# Altium integrated library Analog Devices Operational Amplifiers.IntLib: 2102 symbols (part 3 of 70)
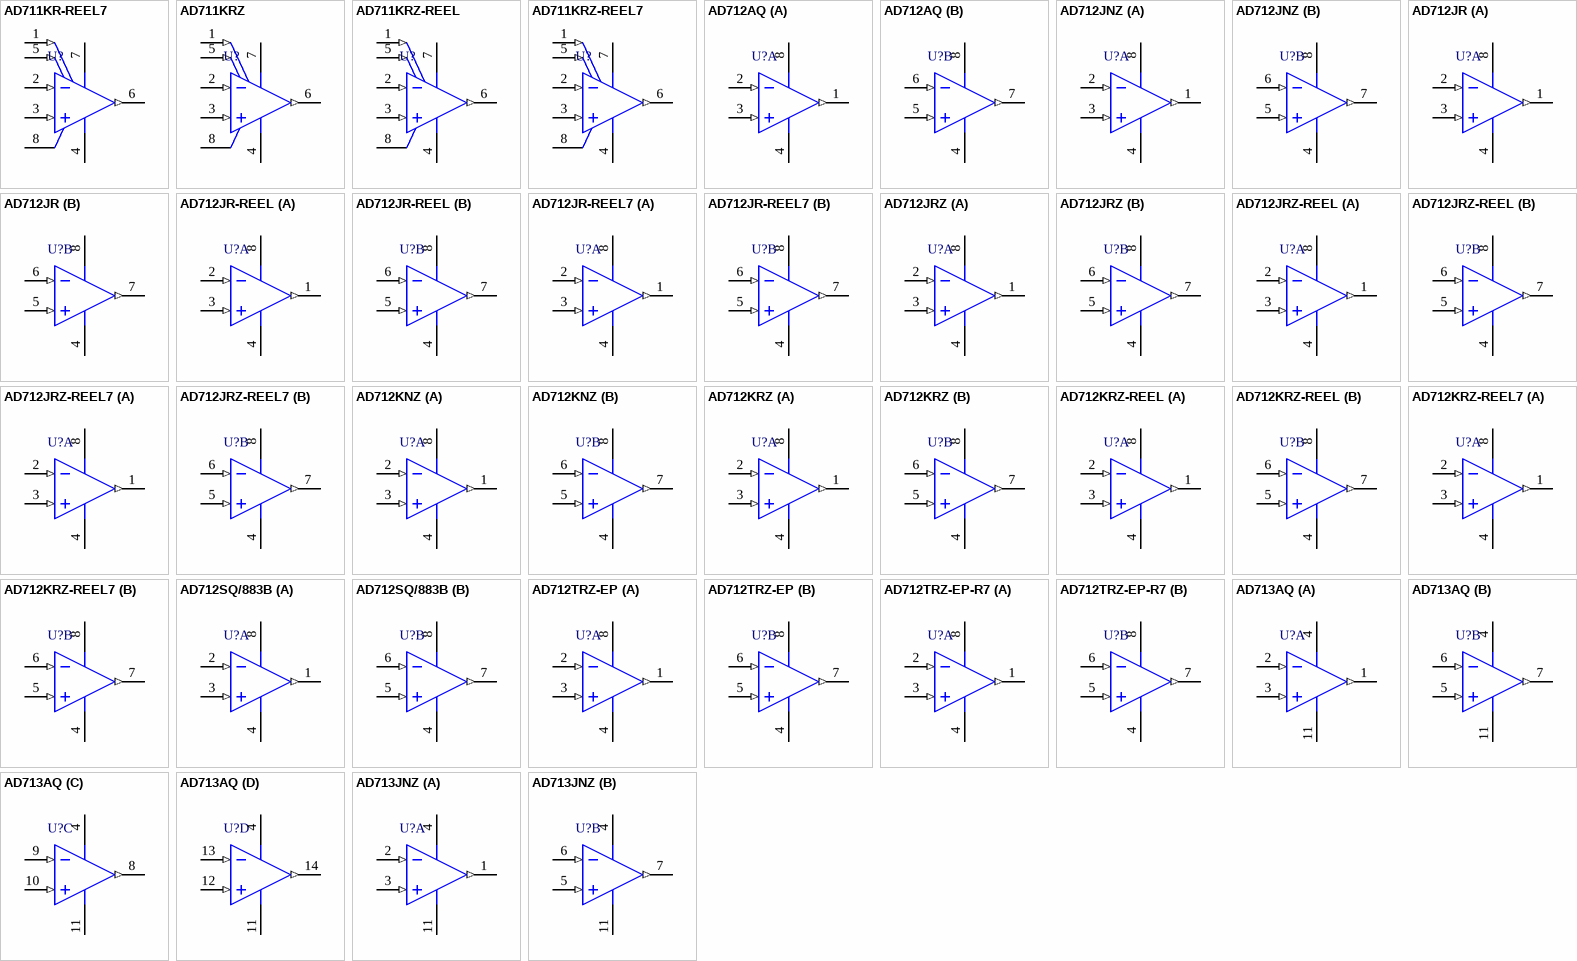
[diagram p116: symbols AD711KR-REEL7 to AD713JNZ]

## AD712JRZ-REEL7
designator U?
Double Channel Operational Amplifier, 4 MHz BW, 20 V/us SR, Commercial, 8-pin SOIC (R-8), Reel; Generic Part Number: AD712; Manufacturer: Analog Devices; PartNumber: AD712JRZ-REEL7; Amplifiers Per Package: 2; Input Bias Current: 25pA; Input Offset Voltage: 300uV; Iq/Amp: 2.8mA; Slew Rate: 20V/us; Small Signal Bandwidth: 4MHz; V Span Max: 36V; V Span Min: 9V; DatasheetVersion: Rev. H; PackageVersion: 060506-A; PackageReference: R-8; PackageDescription: 8-Pin Standard Small Outline Package, Body 3.9 x 4.9 mm, Pitch 1.27 mm; Supplier 1: Digi-Key; Supplier Part Number 1: AD712JRZ-REEL7TR-ND; Supplier 2: Digi-Key; Supplier Part Number 2: AD712JRZ-REEL7CT-ND; Supplier 3: Digi-Key; Supplier Part Number 3: AD712JRZ-REEL7DKR-ND; Supplier 4: Newark; Supplier Part Number 4: 87H9973; Packing: Reel; Mounting Technology: Surface Mount; Code_JEDEC: MS-012-AA; ComponentLink1Description: Manufacturer URL; ComponentLink1URL: http://www.analog.com/en/index.html; ComponentLink2Description: Datasheet; ComponentLink2URL: http://www.analog.com/static/imported-files/data_sheets/AD712.pdf; ComponentLink3Description: Package Specification; ComponentLink3URL: http://www.analog.com/static/imported-files/packages/PKG_PDF/SOIC_Narrow%20(R)/R_8.pdf
footprint ADI-R-8_N (SOIC, 8-Leads, Body 4.9x3.9mm, Pitch 1.27mm, IPC Medium Density)
footprint ADI-R-8_L (SOIC, 8-Leads, Body 4.9x3.9mm, Pitch 1.27mm, IPC High Density)
footprint ADI-R-8_M (SOIC, 8-Leads, Body 4.9x3.9mm, Pitch 1.27mm, IPC Low Density)
pins on every part: 4 -V (power), 8 +V (power)
part A pins: 1 OUT (out), 2 INVERTING INPUT (in), 3 NONINVERTING INPUT (in)
part B pins: 5 NONINVERTING INPUT (in), 6 INVERTING INPUT (in), 7 OUT (out)

## AD712KNZ
designator U?
Double Channel Operational Amplifier, 4 MHz BW, 20 V/us SR, Commercial, 8-pin DIP (N-8), Tube; Generic Part Number: AD712; Manufacturer: Analog Devices; PartNumber: AD712KNZ; Amplifiers Per Package: 2; Input Bias Current: 20pA; Input Offset Voltage: 200uV; Iq/Amp: 2.8mA; Slew Rate: 20V/us; Small Signal Bandwidth: 4MHz; V Span Max: 36V; V Span Min: 9V; DatasheetVersion: Rev. H; PackageVersion: 070606-A; PackageReference: N-8; PackageDescription: 8-Pin Plastic Dual In-Line Package, Row spacing 7.62 mm, Pitch 2.54 mm; Supplier 1: Digi-Key; Supplier Part Number 1: AD712KNZ-ND; Supplier 2: Farnell; Supplier Part Number 2: 1438361; Supplier 3: Newark; Supplier Part Number 3: 59K4555; Packing: Tube; Mounting Technology: Through Hole; Code_JEDEC: MS-001; ComponentLink1Description: Manufacturer URL; ComponentLink1URL: http://www.analog.com/en/index.html; ComponentLink2Description: Datasheet; ComponentLink2URL: http://www.analog.com/static/imported-files/data_sheets/AD712.pdf; ComponentLink3Description: Package Specification; ComponentLink3URL: http:/www.analog.com/static/imported-files/packages/PKG_PDF/PDIP(N)/N_8.pdf
footprint ADI-N-8 (DIP, 8-Leads, Body 9.59x6.6mm, Pitch 2.54mm)
pins on every part: 4 -V (power), 8 +V (power)
part A pins: 1 OUT (out), 2 INVERTING INPUT (in), 3 NONINVERTING INPUT (in)
part B pins: 5 NONINVERTING INPUT (in), 6 INVERTING INPUT (in), 7 OUT (out)

## AD712KRZ
designator U?
Double Channel Operational Amplifier, 4 MHz BW, 20 V/us SR, Commercial, 8-pin SOIC (R-8), Tube; Generic Part Number: AD712; Manufacturer: Analog Devices; PartNumber: AD712KRZ; Amplifiers Per Package: 2; Input Bias Current: 20pA; Input Offset Voltage: 200uV; Iq/Amp: 2.8mA; Slew Rate: 20V/us; Small Signal Bandwidth: 4MHz; V Span Max: 36V; V Span Min: 9V; DatasheetVersion: Rev. H; PackageVersion: 060506-A; PackageReference: R-8; PackageDescription: 8-Pin Standard Small Outline Package, Body 3.9 x 4.9 mm, Pitch 1.27 mm; Supplier 1: Digi-Key; Supplier Part Number 1: AD712KRZ-ND; Supplier 2: Farnell; Supplier Part Number 2: 1660966; Supplier 3: Newark; Supplier Part Number 3: 59K4556; Packing: Tube; Mounting Technology: Surface Mount; Code_JEDEC: MS-012-AA; ComponentLink1Description: Manufacturer URL; ComponentLink1URL: http://www.analog.com/en/index.html; ComponentLink2Description: Datasheet; ComponentLink2URL: http://www.analog.com/static/imported-files/data_sheets/AD712.pdf; ComponentLink3Description: Package Specification; ComponentLink3URL: http://www.analog.com/static/imported-files/packages/PKG_PDF/SOIC_Narrow%20(R)/R_8.pdf
footprint ADI-R-8_N (SOIC, 8-Leads, Body 4.9x3.9mm, Pitch 1.27mm, IPC Medium Density)
footprint ADI-R-8_L (SOIC, 8-Leads, Body 4.9x3.9mm, Pitch 1.27mm, IPC High Density)
footprint ADI-R-8_M (SOIC, 8-Leads, Body 4.9x3.9mm, Pitch 1.27mm, IPC Low Density)
pins on every part: 4 -V (power), 8 +V (power)
part A pins: 1 OUT (out), 2 INVERTING INPUT (in), 3 NONINVERTING INPUT (in)
part B pins: 5 NONINVERTING INPUT (in), 6 INVERTING INPUT (in), 7 OUT (out)

## AD712KRZ-REEL
designator U?
Double Channel Operational Amplifier, 4 MHz BW, 20 V/us SR, Commercial, 8-pin SOIC (R-8), Reel; Generic Part Number: AD712; Manufacturer: Analog Devices; PartNumber: AD712KRZ-REEL; Amplifiers Per Package: 2; Input Bias Current: 20pA; Input Offset Voltage: 200uV; Iq/Amp: 2.8mA; Slew Rate: 20V/us; Small Signal Bandwidth: 4MHz; V Span Max: 36V; V Span Min: 9V; DatasheetVersion: Rev. H; PackageVersion: 060506-A; PackageReference: R-8; PackageDescription: 8-Pin Standard Small Outline Package, Body 3.9 x 4.9 mm, Pitch 1.27 mm; Supplier 1: Digi-Key; Supplier Part Number 1: AD712KRZ-REEL-ND; Packing: Reel; Mounting Technology: Surface Mount; Code_JEDEC: MS-012-AA; ComponentLink1Description: Manufacturer URL; ComponentLink1URL: http://www.analog.com/en/index.html; ComponentLink2Description: Datasheet; ComponentLink2URL: http://www.analog.com/static/imported-files/data_sheets/AD712.pdf; ComponentLink3Description: Package Specification; ComponentLink3URL: http://www.analog.com/static/imported-files/packages/PKG_PDF/SOIC_Narrow%20(R)/R_8.pdf
footprint ADI-R-8_N (SOIC, 8-Leads, Body 4.9x3.9mm, Pitch 1.27mm, IPC Medium Density)
footprint ADI-R-8_L (SOIC, 8-Leads, Body 4.9x3.9mm, Pitch 1.27mm, IPC High Density)
footprint ADI-R-8_M (SOIC, 8-Leads, Body 4.9x3.9mm, Pitch 1.27mm, IPC Low Density)
pins on every part: 4 -V (power), 8 +V (power)
part A pins: 1 OUT (out), 2 INVERTING INPUT (in), 3 NONINVERTING INPUT (in)
part B pins: 5 NONINVERTING INPUT (in), 6 INVERTING INPUT (in), 7 OUT (out)

## AD712KRZ-REEL7
designator U?
Double Channel Operational Amplifier, 4 MHz BW, 20 V/us SR, Commercial, 8-pin SOIC (R-8), Reel; Generic Part Number: AD712; Manufacturer: Analog Devices; PartNumber: AD712KRZ-REEL7; Amplifiers Per Package: 2; Input Bias Current: 20pA; Input Offset Voltage: 200uV; Iq/Amp: 2.8mA; Slew Rate: 20V/us; Small Signal Bandwidth: 4MHz; V Span Max: 36V; V Span Min: 9V; DatasheetVersion: Rev. H; PackageVersion: 060506-A; PackageReference: R-8; PackageDescription: 8-Pin Standard Small Outline Package, Body 3.9 x 4.9 mm, Pitch 1.27 mm; Supplier 1: Digi-Key; Supplier Part Number 1: AD712KRZ-REEL7TR-ND; Supplier 2: Digi-Key; Supplier Part Number 2: AD712KRZ-REEL7CT-ND; Supplier 3: Digi-Key; Supplier Part Number 3: AD712KRZ-REEL7DKR-ND; Packing: Reel; Mounting Technology: Surface Mount; Code_JEDEC: MS-012-AA; ComponentLink1Description: Manufacturer URL; ComponentLink1URL: http://www.analog.com/en/index.html; ComponentLink2Description: Datasheet; ComponentLink2URL: http://www.analog.com/static/imported-files/data_sheets/AD712.pdf; ComponentLink3Description: Package Specification; ComponentLink3URL: http://www.analog.com/static/imported-files/packages/PKG_PDF/SOIC_Narrow%20(R)/R_8.pdf
footprint ADI-R-8_N (SOIC, 8-Leads, Body 4.9x3.9mm, Pitch 1.27mm, IPC Medium Density)
footprint ADI-R-8_L (SOIC, 8-Leads, Body 4.9x3.9mm, Pitch 1.27mm, IPC High Density)
footprint ADI-R-8_M (SOIC, 8-Leads, Body 4.9x3.9mm, Pitch 1.27mm, IPC Low Density)
pins on every part: 4 -V (power), 8 +V (power)
part A pins: 1 OUT (out), 2 INVERTING INPUT (in), 3 NONINVERTING INPUT (in)
part B pins: 5 NONINVERTING INPUT (in), 6 INVERTING INPUT (in), 7 OUT (out)

## AD712SQ/883B
designator U?
Double Channel Operational Amplifier, 4 MHz BW, 20 V/us SR, Military, 8-pin DIP (Q-8), Tube; Generic Part Number: AD712; Manufacturer: Analog Devices; PartNumber: AD712SQ/883B; Amplifiers Per Package: 2; Input Bias Current: 25pA; Input Offset Voltage: 300uV; Iq/Amp: 2.8mA; Slew Rate: 20V/us; Small Signal Bandwidth: 4MHz; V Span Max: 36V; V Span Min: 9V; DatasheetVersion: Rev. H; PackageReference: Q-8; PackageDescription: 8-Pin Ceramic Dual In-Line Package, Row spacing 7.62 mm, Pitch 2.54 mm; Supplier 1: Digi-Key; Supplier Part Number 1: AD712SQ/883B-ND; Supplier 2: Newark; Supplier Part Number 2: 28M3230; Packing: Tube; Mounting Technology: Through Hole; ComponentLink1Description: Manufacturer URL; ComponentLink1URL: http://www.analog.com/en/index.html; ComponentLink2Description: Datasheet; ComponentLink2URL: http://www.analog.com/static/imported-files/data_sheets/AD712.pdf; ComponentLink3Description: Package Specification; ComponentLink3URL: http://www.analog.com/static/imported-files/packages/3925655241313314758Q_8.pdf
footprint ADI-Q-8 (DIP, 8-Leads, Body 10.29x6.73mm, Pitch 2.54mm)
pins on every part: 4 -V (power), 8 +V (power)
part A pins: 1 OUT (out), 2 INVERTING INPUT (in), 3 NONINVERTING INPUT (in)
part B pins: 5 NONINVERTING INPUT (in), 6 INVERTING INPUT (in), 7 OUT (out)

## AD712TRZ-EP
designator U?
Double Channel Operational Amplifier, 4 MHz BW, 20 V/us SR, Military, 8-pin SOIC (R-8), Tube; Generic Part Number: AD712; Manufacturer: Analog Devices; PartNumber: AD712TRZ-EP; Amplifiers Per Package: 2; Input Bias Current: 25pA; Input Offset Voltage: 300uV; Iq/Amp: 2.8mA; Slew Rate: 20V/us; Small Signal Bandwidth: 4MHz; V Span Max: 36V; V Span Min: 9V; DatasheetVersion: Rev. H; PackageVersion: 060506-A; PackageReference: R-8; PackageDescription: 8-Pin Standard Small Outline Package, Body 3.9 x 4.9 mm, Pitch 1.27 mm; Supplier 1: Digi-Key; Supplier Part Number 1: AD712TRZ-EP-ND; Supplier 2: Newark; Supplier Part Number 2: 85R6433; Packing: Tube; Mounting Technology: Surface Mount; Code_JEDEC: MS-012-AA; ComponentLink1Description: Manufacturer URL; ComponentLink1URL: http://www.analog.com/en/index.html; ComponentLink2Description: Datasheet; ComponentLink2URL: http://www.analog.com/static/imported-files/data_sheets/AD712.pdf; ComponentLink3Description: Package Specification; ComponentLink3URL: http://www.analog.com/static/imported-files/packages/PKG_PDF/SOIC_Narrow%20(R)/R_8.pdf
footprint ADI-R-8_N (SOIC, 8-Leads, Body 4.9x3.9mm, Pitch 1.27mm, IPC Medium Density)
footprint ADI-R-8_L (SOIC, 8-Leads, Body 4.9x3.9mm, Pitch 1.27mm, IPC High Density)
footprint ADI-R-8_M (SOIC, 8-Leads, Body 4.9x3.9mm, Pitch 1.27mm, IPC Low Density)
pins on every part: 4 -V (power), 8 +V (power)
part A pins: 1 OUT (out), 2 INVERTING INPUT (in), 3 NONINVERTING INPUT (in)
part B pins: 5 NONINVERTING INPUT (in), 6 INVERTING INPUT (in), 7 OUT (out)

## AD712TRZ-EP-R7
designator U?
Double Channel Operational Amplifier, 4 MHz BW, 20 V/us SR, Military, 8-pin SOIC (R-8), Reel; Generic Part Number: AD712; Manufacturer: Analog Devices; PartNumber: AD712TRZ-EP-R7; Amplifiers Per Package: 2; Input Bias Current: 25pA; Input Offset Voltage: 300uV; Iq/Amp: 2.8mA; Slew Rate: 20V/us; Small Signal Bandwidth: 4MHz; V Span Max: 36V; V Span Min: 9V; DatasheetVersion: Rev. H; PackageVersion: 060506-A; PackageReference: R-8; PackageDescription: 8-Pin Standard Small Outline Package, Body 3.9 x 4.9 mm, Pitch 1.27 mm; Supplier 1: Digi-Key; Supplier Part Number 1: AD712TRZ-EP-R7TR-ND; Supplier 2: Digi-Key; Supplier Part Number 2: AD712TRZ-EP-R7CT-ND; Supplier 3: Digi-Key; Supplier Part Number 3: AD712TRZ-EP-R7DKR-ND; Supplier 4: Newark; Supplier Part Number 4: 85R6434; Packing: Reel; Mounting Technology: Surface Mount; Code_JEDEC: MS-012-AA; ComponentLink1Description: Manufacturer URL; ComponentLink1URL: http://www.analog.com/en/index.html; ComponentLink2Description: Datasheet; ComponentLink2URL: http://www.analog.com/static/imported-files/data_sheets/AD712.pdf; ComponentLink3Description: Package Specification; ComponentLink3URL: http://www.analog.com/static/imported-files/packages/PKG_PDF/SOIC_Narrow%20(R)/R_8.pdf
footprint ADI-R-8_N (SOIC, 8-Leads, Body 4.9x3.9mm, Pitch 1.27mm, IPC Medium Density)
footprint ADI-R-8_L (SOIC, 8-Leads, Body 4.9x3.9mm, Pitch 1.27mm, IPC High Density)
footprint ADI-R-8_M (SOIC, 8-Leads, Body 4.9x3.9mm, Pitch 1.27mm, IPC Low Density)
pins on every part: 4 -V (power), 8 +V (power)
part A pins: 1 OUT (out), 2 INVERTING INPUT (in), 3 NONINVERTING INPUT (in)
part B pins: 5 NONINVERTING INPUT (in), 6 INVERTING INPUT (in), 7 OUT (out)

## AD713AQ
designator U?
Quad Channel Operational Amplifier, 4 MHz BW, 20 V/us SR, Industrial, 14-pin DIP (Q-14), Tube; Generic Part Number: AD713; Manufacturer: Analog Devices; PartNumber: AD713AQ; Amplifiers Per Package: 4; Input Bias Current: 40pA; Input Offset Voltage: 300uV; Iq/Amp: 3mA; Slew Rate: 20V/us; Small Signal Bandwidth: 4MHz; V Span Max: 36V; V Span Min: 9V; DatasheetVersion: Rev. F; PackageReference: Q-14; PackageDescription: 14-Pin Ceramic Dual In-Line Package, Row spacing 7.62 mm, Pitch 2.54 mm; Supplier 1: Digi-Key; Supplier Part Number 1: AD713AQ-ND; Supplier 2: Farnell; Supplier Part Number 2: 1646254; Supplier 3: Newark; Supplier Part Number 3: 66F5831; Packing: Tube; Mounting Technology: Through Hole; ComponentLink1Description: Manufacturer URL; ComponentLink1URL: http://www.analog.com/en/index.html; ComponentLink2Description: Datasheet; ComponentLink2URL: http://www.analog.com/static/imported-files/data_sheets/AD713.pdf; ComponentLink3Description: Package Specification; ComponentLink3URL: http://www.analog.com/static/imported-files/packages/393665681442905251546090Q_14.pdf
footprint ADI-Q-14 (DIP, 14-Leads, Body 19.94x6.73mm, Pitch 2.54mm)
pins on every part: 4 +VS (power), 11 -VS (power)
part A pins: 1 OUT 1 (out), 2 -IN 1 (in), 3 +IN 1 (in)
part B pins: 5 +IN 2 (in), 6 -IN 2 (in), 7 OUT 2 (out)
part C pins: 8 OUT 3 (out), 9 -IN 3 (in), 10 +IN 3 (in)
part D pins: 12 +IN 4 (in), 13 -IN 4 (in), 14 OUT 4 (out)

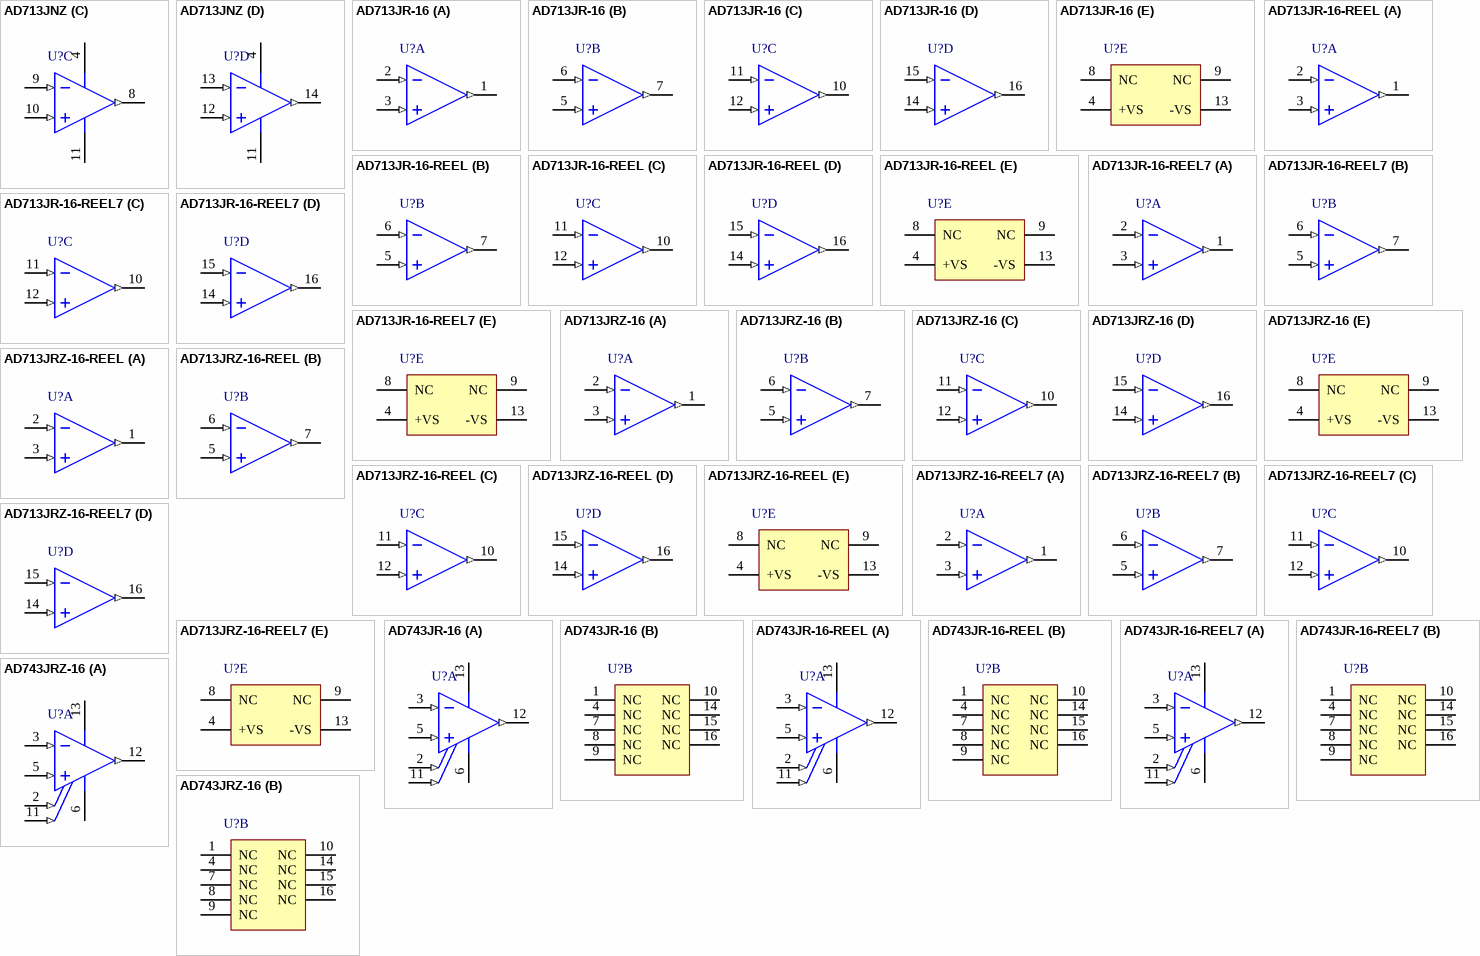
[diagram p4: symbols AD713JNZ to AD743JRZ-16]

## AD713JNZ
designator U?
Quad Channel Operational Amplifier, 4 MHz BW, 20 V/us SR, Commercial, 14-pin DIP (N-14), Tube; Generic Part Number: AD713; Manufacturer: Analog Devices; PartNumber: AD713JNZ; Amplifiers Per Package: 4; Input Bias Current: 40pA; Input Offset Voltage: 300uV; Iq/Amp: 3mA; Slew Rate: 20V/us; Small Signal Bandwidth: 4MHz; V Span Max: 36V; V Span Min: 9V; DatasheetVersion: Rev. F; PackageVersion: 070606-A; PackageReference: N-14; PackageDescription: 14-Pin Plastic Dual In-Line Package, Row spacing 7.62 mm, Pitch 2.54 mm; Supplier 1: Digi-Key; Supplier Part Number 1: AD713JNZ-ND; Supplier 2: Farnell; Supplier Part Number 2: 9604910; Supplier 3: Newark; Supplier Part Number 3: 59K4559; Packing: Tube; Mounting Technology: Through Hole; Code_JEDEC: MS-001; ComponentLink1Description: Manufacturer URL; ComponentLink1URL: http://www.analog.com/en/index.html; ComponentLink2Description: Datasheet; ComponentLink2URL: http://www.analog.com/static/imported-files/data_sheets/AD713.pdf; ComponentLink3Description: Package Specification; ComponentLink3URL: http://www.analog.com/static/imported-files/packages/N_14.pdf
footprint ADI-N-14 (DIP, 14-Leads, Body 19.18x6.605mm, Pitch 2.54mm)
pins on every part: 4 +VS (power), 11 -VS (power)
part A pins: 1 OUT 1 (out), 2 -IN 1 (in), 3 +IN 1 (in)
part B pins: 5 +IN 2 (in), 6 -IN 2 (in), 7 OUT 2 (out)
part C pins: 8 OUT 3 (out), 9 -IN 3 (in), 10 +IN 3 (in)
part D pins: 12 +IN 4 (in), 13 -IN 4 (in), 14 OUT 4 (out)

## AD713JR-16
designator U?
Quad Channel Operational Amplifier, 4 MHz BW, 20 V/us SR, Commercial, 16-pin SOIC (RW-16), Tube; Generic Part Number: AD713; Manufacturer: Analog Devices; PartNumber: AD713JR-16; Amplifiers Per Package: 4; Input Bias Current: 40pA; Input Offset Voltage: 300uV; Iq/Amp: 3mA; Slew Rate: 20V/us; Small Signal Bandwidth: 4MHz; V Span Max: 36V; V Span Min: 9V; DatasheetVersion: Rev. F; PackageVersion: 032707-B; PackageReference: RW-16; PackageDescription: 16-Pin Standard Small Outline Package, Body 10.3 x 7.5 mm, Pitch 1.27 mm; Supplier 1: Digi-Key; Supplier Part Number 1: AD713JR-16-ND; Packing: Tube; Mounting Technology: Surface Mount; Code_JEDEC: MS-013-AA; ComponentLink1Description: Manufacturer URL; ComponentLink1URL: http://www.analog.com/en/index.html; ComponentLink2Description: Datasheet; ComponentLink2URL: http://www.analog.com/static/imported-files/data_sheets/AD713.pdf; ComponentLink3Description: Package Specification; ComponentLink3URL: http://www.analog.com/static/imported-files/packages/PKG_PDF/SOIC_WIDE%20%28RW%29/RW_16.pdf
footprint ADI-RW-16_N (SOIC, 16-Leads, Body 10.3x7.5mm, Pitch 1.27mm,IPC Medium Density)
footprint ADI-RW-16_L (SOIC, 16-Leads, Body 10.3x7.5mm, Pitch 1.27mm, IPC High Density)
footprint ADI-RW-16_M (SOIC, 16-Leads, Body 10.3x7.5mm, Pitch 1.27mm, IPC Low Density)
part A pins: 1 OUT (out), 2 -IN (in), 3 +IN (in)
part B pins: 5 +IN (in), 6 -IN (in), 7 OUT (out)
part C pins: 10 OUT (out), 11 -IN (in), 12 +IN (in)
part D pins: 14 +IN (in), 15 -IN (in), 16 OUT (out)
part E pins: 4 +VS (power), 8 NC, 9 NC, 13 -VS (power)

## AD713JR-16-REEL
designator U?
Quad Channel Operational Amplifier, 4 MHz BW, 20 V/us SR, Commercial, 16-pin SOIC (RW-16), Reel; Generic Part Number: AD713; Manufacturer: Analog Devices; PartNumber: AD713JR-16-REEL; Amplifiers Per Package: 4; Input Bias Current: 40pA; Input Offset Voltage: 300uV; Iq/Amp: 3mA; Slew Rate: 20V/us; Small Signal Bandwidth: 4MHz; V Span Max: 36V; V Span Min: 9V; DatasheetVersion: Rev. F; PackageVersion: 032707-B; PackageReference: RW-16; PackageDescription: 16-Pin Standard Small Outline Package, Body 10.3 x 7.5 mm, Pitch 1.27 mm; Supplier 1: Digi-Key; Supplier Part Number 1: AD713JR-16-REEL-ND; Supplier 2: Newark; Supplier Part Number 2: 09B5558; Packing: Reel; Mounting Technology: Surface Mount; Code_JEDEC: MS-013-AA; ComponentLink1Description: Manufacturer URL; ComponentLink1URL: http://www.analog.com/en/index.html; ComponentLink2Description: Datasheet; ComponentLink2URL: http://www.analog.com/static/imported-files/data_sheets/AD713.pdf; ComponentLink3Description: Package Specification; ComponentLink3URL: http://www.analog.com/static/imported-files/packages/PKG_PDF/SOIC_WIDE%20%28RW%29/RW_16.pdf
footprint ADI-RW-16_N (SOIC, 16-Leads, Body 10.3x7.5mm, Pitch 1.27mm,IPC Medium Density)
footprint ADI-RW-16_L (SOIC, 16-Leads, Body 10.3x7.5mm, Pitch 1.27mm, IPC High Density)
footprint ADI-RW-16_M (SOIC, 16-Leads, Body 10.3x7.5mm, Pitch 1.27mm, IPC Low Density)
part A pins: 1 OUT (out), 2 -IN (in), 3 +IN (in)
part B pins: 5 +IN (in), 6 -IN (in), 7 OUT (out)
part C pins: 10 OUT (out), 11 -IN (in), 12 +IN (in)
part D pins: 14 +IN (in), 15 -IN (in), 16 OUT (out)
part E pins: 4 +VS (power), 8 NC, 9 NC, 13 -VS (power)

## AD713JR-16-REEL7
designator U?
Quad Channel Operational Amplifier, 4 MHz BW, 20 V/us SR, Commercial, 16-pin SOIC (RW-16), Reel; Generic Part Number: AD713; Manufacturer: Analog Devices; PartNumber: AD713JR-16-REEL7; Amplifiers Per Package: 4; Input Bias Current: 40pA; Input Offset Voltage: 300uV; Iq/Amp: 3mA; Slew Rate: 20V/us; Small Signal Bandwidth: 4MHz; V Span Max: 36V; V Span Min: 9V; DatasheetVersion: Rev. F; PackageVersion: 032707-B; PackageReference: RW-16; PackageDescription: 16-Pin Standard Small Outline Package, Body 10.3 x 7.5 mm, Pitch 1.27 mm; Supplier 1: Digi-Key; Supplier Part Number 1: AD713JR-16REEL7TR-ND; Supplier 2: Digi-Key; Supplier Part Number 2: AD713JR-16REEL7CT-ND; Supplier 3: Digi-Key; Supplier Part Number 3: AD713JR16REEL7DKR-ND; Supplier 4: Newark; Supplier Part Number 4: 09B5559; Packing: Reel; Mounting Technology: Surface Mount; Code_JEDEC: MS-013-AA; ComponentLink1Description: Manufacturer URL; ComponentLink1URL: http://www.analog.com/en/index.html; ComponentLink2Description: Datasheet; ComponentLink2URL: http://www.analog.com/static/imported-files/data_sheets/AD713.pdf; ComponentLink3Description: Package Specification; ComponentLink3URL: http://www.analog.com/static/imported-files/packages/PKG_PDF/SOIC_WIDE%20%28RW%29/RW_16.pdf
footprint ADI-RW-16_N (SOIC, 16-Leads, Body 10.3x7.5mm, Pitch 1.27mm,IPC Medium Density)
footprint ADI-RW-16_L (SOIC, 16-Leads, Body 10.3x7.5mm, Pitch 1.27mm, IPC High Density)
footprint ADI-RW-16_M (SOIC, 16-Leads, Body 10.3x7.5mm, Pitch 1.27mm, IPC Low Density)
part A pins: 1 OUT (out), 2 -IN (in), 3 +IN (in)
part B pins: 5 +IN (in), 6 -IN (in), 7 OUT (out)
part C pins: 10 OUT (out), 11 -IN (in), 12 +IN (in)
part D pins: 14 +IN (in), 15 -IN (in), 16 OUT (out)
part E pins: 4 +VS (power), 8 NC, 9 NC, 13 -VS (power)

## AD713JRZ-16
designator U?
Quad Channel Operational Amplifier, 4 MHz BW, 20 V/us SR, Commercial, 16-pin SOIC (RW-16), Tube; Generic Part Number: AD713; Manufacturer: Analog Devices; PartNumber: AD713JRZ-16; Amplifiers Per Package: 4; Input Bias Current: 40pA; Input Offset Voltage: 300uV; Iq/Amp: 3mA; Slew Rate: 20V/us; Small Signal Bandwidth: 4MHz; V Span Max: 36V; V Span Min: 9V; DatasheetVersion: Rev. F; PackageVersion: 032707-B; PackageReference: RW-16; PackageDescription: 16-Pin Standard Small Outline Package, Body 10.3 x 7.5 mm, Pitch 1.27 mm; Supplier 1: Digi-Key; Supplier Part Number 1: AD713JRZ-16-ND; Supplier 2: Farnell; Supplier Part Number 2: 1660969; Supplier 3: Newark; Supplier Part Number 3: 59K4560; Packing: Tube; Mounting Technology: Surface Mount; Code_JEDEC: MS-013-AA; ComponentLink1Description: Manufacturer URL; ComponentLink1URL: http://www.analog.com/en/index.html; ComponentLink2Description: Datasheet; ComponentLink2URL: http://www.analog.com/static/imported-files/data_sheets/AD713.pdf; ComponentLink3Description: Package Specification; ComponentLink3URL: http://www.analog.com/static/imported-files/packages/PKG_PDF/SOIC_WIDE%20%28RW%29/RW_16.pdf
footprint ADI-RW-16_N (SOIC, 16-Leads, Body 10.3x7.5mm, Pitch 1.27mm,IPC Medium Density)
footprint ADI-RW-16_L (SOIC, 16-Leads, Body 10.3x7.5mm, Pitch 1.27mm, IPC High Density)
footprint ADI-RW-16_M (SOIC, 16-Leads, Body 10.3x7.5mm, Pitch 1.27mm, IPC Low Density)
part A pins: 1 OUT (out), 2 -IN (in), 3 +IN (in)
part B pins: 5 +IN (in), 6 -IN (in), 7 OUT (out)
part C pins: 10 OUT (out), 11 -IN (in), 12 +IN (in)
part D pins: 14 +IN (in), 15 -IN (in), 16 OUT (out)
part E pins: 4 +VS (power), 8 NC, 9 NC, 13 -VS (power)

## AD713JRZ-16-REEL
designator U?
Quad Channel Operational Amplifier, 4 MHz BW, 20 V/us SR, Commercial, 16-pin SOIC (RW-16), Reel; Generic Part Number: AD713; Manufacturer: Analog Devices; PartNumber: AD713JRZ-16-REEL; Amplifiers Per Package: 4; Input Bias Current: 40pA; Input Offset Voltage: 300uV; Iq/Amp: 3mA; Slew Rate: 20V/us; Small Signal Bandwidth: 4MHz; V Span Max: 36V; V Span Min: 9V; DatasheetVersion: Rev. F; PackageVersion: 032707-B; PackageReference: RW-16; PackageDescription: 16-Pin Standard Small Outline Package, Body 10.3 x 7.5 mm, Pitch 1.27 mm; Supplier 1: Digi-Key; Supplier Part Number 1: AD713JRZ-16-REEL-ND; Supplier 2: Newark; Supplier Part Number 2: 59K4561; Packing: Reel; Mounting Technology: Surface Mount; Code_JEDEC: MS-013-AA; ComponentLink1Description: Manufacturer URL; ComponentLink1URL: http://www.analog.com/en/index.html; ComponentLink2Description: Datasheet; ComponentLink2URL: http://www.analog.com/static/imported-files/data_sheets/AD713.pdf; ComponentLink3Description: Package Specification; ComponentLink3URL: http://www.analog.com/static/imported-files/packages/PKG_PDF/SOIC_WIDE%20%28RW%29/RW_16.pdf
footprint ADI-RW-16_N (SOIC, 16-Leads, Body 10.3x7.5mm, Pitch 1.27mm,IPC Medium Density)
footprint ADI-RW-16_L (SOIC, 16-Leads, Body 10.3x7.5mm, Pitch 1.27mm, IPC High Density)
footprint ADI-RW-16_M (SOIC, 16-Leads, Body 10.3x7.5mm, Pitch 1.27mm, IPC Low Density)
part A pins: 1 OUT (out), 2 -IN (in), 3 +IN (in)
part B pins: 5 +IN (in), 6 -IN (in), 7 OUT (out)
part C pins: 10 OUT (out), 11 -IN (in), 12 +IN (in)
part D pins: 14 +IN (in), 15 -IN (in), 16 OUT (out)
part E pins: 4 +VS (power), 8 NC, 9 NC, 13 -VS (power)

## AD713JRZ-16-REEL7
designator U?
Quad Channel Operational Amplifier, 4 MHz BW, 20 V/us SR, Commercial, 16-pin SOIC (RW-16), Reel; Generic Part Number: AD713; Manufacturer: Analog Devices; PartNumber: AD713JRZ-16-REEL7; Amplifiers Per Package: 4; Input Bias Current: 40pA; Input Offset Voltage: 300uV; Iq/Amp: 3mA; Slew Rate: 20V/us; Small Signal Bandwidth: 4MHz; V Span Max: 36V; V Span Min: 9V; DatasheetVersion: Rev. F; PackageVersion: 032707-B; PackageReference: RW-16; PackageDescription: 16-Pin Standard Small Outline Package, Body 10.3 x 7.5 mm, Pitch 1.27 mm; Supplier 1: Digi-Key; Supplier Part Number 1: AD713JRZ-16-REEL7TR-ND; Supplier 2: Digi-Key; Supplier Part Number 2: AD713JRZ-16-REEL7CT-ND; Supplier 3: Digi-Key; Supplier Part Number 3: AD713JRZ-16-REEL7DKR-ND; Supplier 4: Newark; Supplier Part Number 4: 59K4562; Packing: Reel; Mounting Technology: Surface Mount; Code_JEDEC: MS-013-AA; ComponentLink1Description: Manufacturer URL; ComponentLink1URL: http://www.analog.com/en/index.html; ComponentLink2Description: Datasheet; ComponentLink2URL: http://www.analog.com/static/imported-files/data_sheets/AD713.pdf; ComponentLink3Description: Package Specification; ComponentLink3URL: http://www.analog.com/static/imported-files/packages/PKG_PDF/SOIC_WIDE%20%28RW%29/RW_16.pdf
footprint ADI-RW-16_N (SOIC, 16-Leads, Body 10.3x7.5mm, Pitch 1.27mm,IPC Medium Density)
footprint ADI-RW-16_L (SOIC, 16-Leads, Body 10.3x7.5mm, Pitch 1.27mm, IPC High Density)
footprint ADI-RW-16_M (SOIC, 16-Leads, Body 10.3x7.5mm, Pitch 1.27mm, IPC Low Density)
part A pins: 1 OUT (out), 2 -IN (in), 3 +IN (in)
part B pins: 5 +IN (in), 6 -IN (in), 7 OUT (out)
part C pins: 10 OUT (out), 11 -IN (in), 12 +IN (in)
part D pins: 14 +IN (in), 15 -IN (in), 16 OUT (out)
part E pins: 4 +VS (power), 8 NC, 9 NC, 13 -VS (power)

## AD743JR-16
designator U?
Single Channel Ultralow Noise Performance Operational Amplifier, 4.5 MHz BW, 2.8 V/us SR, Commercial, 16-pin SOIC (RW-16), Tube; Generic Part Number: AD743; Manufacturer: Analog Devices; PartNumber: AD743JR-16; Amplifiers Per Package: 1; Input Bias Current: 150pA; Input Offset Voltage: 250uV; Iq/Amp: 10mA; Small Signal Bandwidth: 4.5MHz; V Span Max: 36V; V Span Min: 9.6V; DatasheetVersion: Rev. E; PackageVersion: 032707-B; PackageReference: RW-16; PackageDescription: 16-Pin Standard Small Outline Package, Body 10.3 x 7.5 mm, Pitch 1.27 mm; Supplier 1: Digi-Key; Supplier Part Number 1: AD743JR-16-ND; Supplier 2: Newark; Supplier Part Number 2: 73C9410; Packing: Tube; Slew Rate: 2.8V/us; Mounting Technology: Surface Mount; Code_JEDEC: MS-013-AA; ComponentLink1Description: Manufacturer URL; ComponentLink1URL: http://www.analog.com/en/index.html; ComponentLink2Description: Datasheet; ComponentLink2URL: http://www.analog.com/static/imported-files/data_sheets/AD743.pdf; ComponentLink3Description: Package Specification; ComponentLink3URL: http://www.analog.com/static/imported-files/packages/PKG_PDF/SOIC_WIDE%20%28RW%29/RW_16.pdf
footprint ADI-RW-16_N (SOIC, 16-Leads, Body 10.3x7.5mm, Pitch 1.27mm,IPC Medium Density)
footprint ADI-RW-16_L (SOIC, 16-Leads, Body 10.3x7.5mm, Pitch 1.27mm, IPC High Density)
footprint ADI-RW-16_M (SOIC, 16-Leads, Body 10.3x7.5mm, Pitch 1.27mm, IPC Low Density)
part A pins: 2 OFFSET NULL (in), 3 -IN (in), 5 +IN (in), 6 -VS (power), 11 OFFSET NULL (in), 12 OUT (out), 13 +VS (power)
part B pins: 1 NC, 4 NC, 7 NC, 8 NC, 9 NC, 10 NC, 14 NC, 15 NC, 16 NC

## AD743JR-16-REEL
designator U?
Single Channel Ultralow Noise Performance Operational Amplifier, 4.5 MHz BW, 2.8 V/us SR, Commercial, 16-pin SOIC (RW-16), Reel; Generic Part Number: AD743; Manufacturer: Analog Devices; PartNumber: AD743JR-16-REEL; Amplifiers Per Package: 1; Input Bias Current: 150pA; Input Offset Voltage: 250uV; Iq/Amp: 10mA; Small Signal Bandwidth: 4.5MHz; V Span Max: 36V; V Span Min: 9.6V; DatasheetVersion: Rev. E; PackageVersion: 032707-B; PackageReference: RW-16; PackageDescription: 16-Pin Standard Small Outline Package, Body 10.3 x 7.5 mm, Pitch 1.27 mm; Supplier 1: Digi-Key; Supplier Part Number 1: AD743JR-16-REEL-ND; Packing: Reel, 1000; Slew Rate: 2.8V/us; Mounting Technology: Surface Mount; Code_JEDEC: MS-013-AA; ComponentLink1Description: Manufacturer URL; ComponentLink1URL: http://www.analog.com/en/index.html; ComponentLink2Description: Datasheet; ComponentLink2URL: http://www.analog.com/static/imported-files/data_sheets/AD743.pdf; ComponentLink3Description: Package Specification; ComponentLink3URL: http://www.analog.com/static/imported-files/packages/PKG_PDF/SOIC_WIDE%20%28RW%29/RW_16.pdf
footprint ADI-RW-16_N (SOIC, 16-Leads, Body 10.3x7.5mm, Pitch 1.27mm,IPC Medium Density)
footprint ADI-RW-16_L (SOIC, 16-Leads, Body 10.3x7.5mm, Pitch 1.27mm, IPC High Density)
footprint ADI-RW-16_M (SOIC, 16-Leads, Body 10.3x7.5mm, Pitch 1.27mm, IPC Low Density)
part A pins: 2 OFFSET NULL (in), 3 -IN (in), 5 +IN (in), 6 -VS (power), 11 OFFSET NULL (in), 12 OUT (out), 13 +VS (power)
part B pins: 1 NC, 4 NC, 7 NC, 8 NC, 9 NC, 10 NC, 14 NC, 15 NC, 16 NC

## AD743JR-16-REEL7
designator U?
Single Channel Ultralow Noise Performance Operational Amplifier, 4.5 MHz BW, 2.8 V/us SR, Commercial, 16-pin SOIC (RW-16), Reel; Generic Part Number: AD743; Manufacturer: Analog Devices; PartNumber: AD743JR-16-REEL7; Amplifiers Per Package: 1; Input Bias Current: 150pA; Input Offset Voltage: 250uV; Iq/Amp: 10mA; Small Signal Bandwidth: 4.5MHz; V Span Max: 36V; V Span Min: 9.6V; DatasheetVersion: Rev. E; PackageVersion: 032707-B; PackageReference: RW-16; PackageDescription: 16-Pin Standard Small Outline Package, Body 10.3 x 7.5 mm, Pitch 1.27 mm; Supplier 1: Digi-Key; Supplier Part Number 1: AD743JR-16-REEL7-ND; Packing: Reel; Slew Rate: 2.8V/us; Mounting Technology: Surface Mount; Code_JEDEC: MS-013-AA; ComponentLink1Description: Manufacturer URL; ComponentLink1URL: http://www.analog.com/en/index.html; ComponentLink2Description: Datasheet; ComponentLink2URL: http://www.analog.com/static/imported-files/data_sheets/AD743.pdf; ComponentLink3Description: Package Specification; ComponentLink3URL: http://www.analog.com/static/imported-files/packages/PKG_PDF/SOIC_WIDE%20%28RW%29/RW_16.pdf
footprint ADI-RW-16_N (SOIC, 16-Leads, Body 10.3x7.5mm, Pitch 1.27mm,IPC Medium Density)
footprint ADI-RW-16_L (SOIC, 16-Leads, Body 10.3x7.5mm, Pitch 1.27mm, IPC High Density)
footprint ADI-RW-16_M (SOIC, 16-Leads, Body 10.3x7.5mm, Pitch 1.27mm, IPC Low Density)
part A pins: 2 OFFSET NULL (in), 3 -IN (in), 5 +IN (in), 6 -VS (power), 11 OFFSET NULL (in), 12 OUT (out), 13 +VS (power)
part B pins: 1 NC, 4 NC, 7 NC, 8 NC, 9 NC, 10 NC, 14 NC, 15 NC, 16 NC

## AD743JRZ-16
designator U?
Single Channel Ultralow Noise Performance Operational Amplifier, 4.5 MHz BW, 2.8 V/us SR, Commercial, 16-pin SOIC (RW-16), Tube; Generic Part Number: AD743; Manufacturer: Analog Devices; PartNumber: AD743JRZ-16; Amplifiers Per Package: 1; Input Bias Current: 150pA; Input Offset Voltage: 250uV; Iq/Amp: 10mA; Small Signal Bandwidth: 4.5MHz; V Span Max: 36V; V Span Min: 9.6V; DatasheetVersion: Rev. E; PackageVersion: 032707-B; PackageReference: RW-16; PackageDescription: 16-Pin Standard Small Outline Package, Body 10.3 x 7.5 mm, Pitch 1.27 mm; Supplier 1: Digi-Key; Supplier Part Number 1: AD743JRZ-16-ND; Supplier 2: Newark; Supplier Part Number 2: 59K4806; Packing: Tube; Slew Rate: 2.8V/us; Mounting Technology: Surface Mount; Code_JEDEC: MS-013-AA; ComponentLink1Description: Manufacturer URL; ComponentLink1URL: http://www.analog.com/en/index.html; ComponentLink2Description: Datasheet; ComponentLink2URL: http://www.analog.com/static/imported-files/data_sheets/AD743.pdf; ComponentLink3Description: Package Specification; ComponentLink3URL: http://www.analog.com/static/imported-files/packages/PKG_PDF/SOIC_WIDE%20%28RW%29/RW_16.pdf
footprint ADI-RW-16_N (SOIC, 16-Leads, Body 10.3x7.5mm, Pitch 1.27mm,IPC Medium Density)
footprint ADI-RW-16_L (SOIC, 16-Leads, Body 10.3x7.5mm, Pitch 1.27mm, IPC High Density)
footprint ADI-RW-16_M (SOIC, 16-Leads, Body 10.3x7.5mm, Pitch 1.27mm, IPC Low Density)
part A pins: 2 OFFSET NULL (in), 3 -IN (in), 5 +IN (in), 6 -VS (power), 11 OFFSET NULL (in), 12 OUT (out), 13 +VS (power)
part B pins: 1 NC, 4 NC, 7 NC, 8 NC, 9 NC, 10 NC, 14 NC, 15 NC, 16 NC

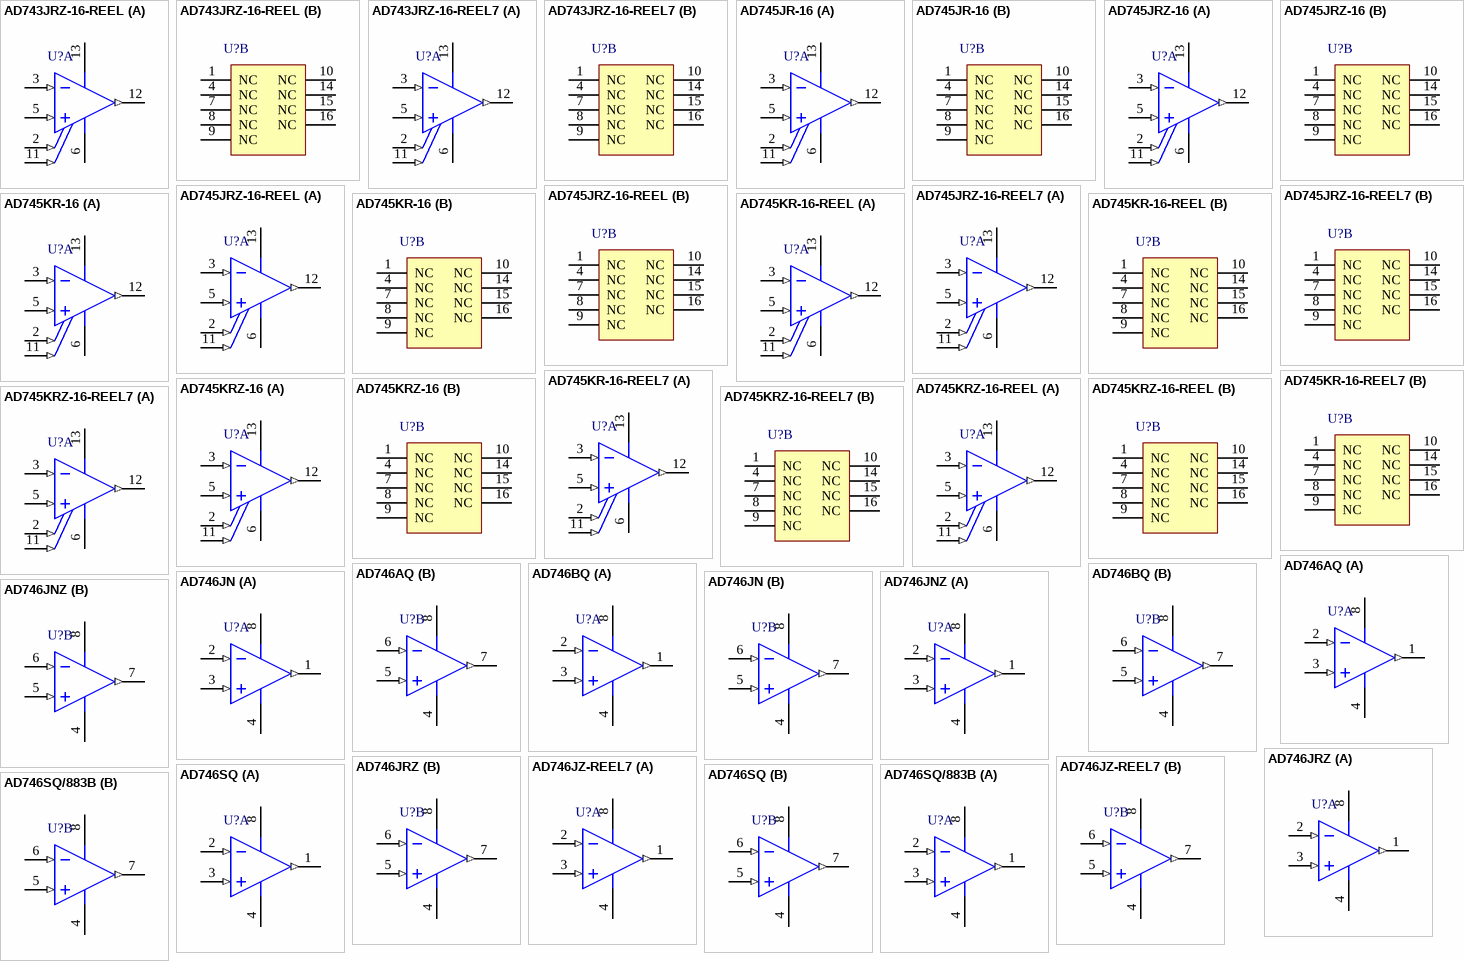
[diagram p5: symbols AD743JRZ-16-REEL to AD746SQ/883B]

## AD743JRZ-16-REEL
designator U?
Single Channel Ultralow Noise Performance Operational Amplifier, 4.5 MHz BW, 2.8 V/us SR, Commercial, 16-pin SOIC (RW-16), Reel; Generic Part Number: AD743; Manufacturer: Analog Devices; PartNumber: AD743JRZ-16-REEL; Amplifiers Per Package: 1; Input Bias Current: 150pA; Input Offset Voltage: 250uV; Iq/Amp: 10mA; Small Signal Bandwidth: 4.5MHz; V Span Max: 36V; V Span Min: 9.6V; DatasheetVersion: Rev. E; PackageVersion: 032707-B; PackageReference: RW-16; PackageDescription: 16-Pin Standard Small Outline Package, Body 10.3 x 7.5 mm, Pitch 1.27 mm; Supplier 1: Digi-Key; Supplier Part Number 1: AD743JRZ-16-REEL-ND; Packing: Reel; Slew Rate: 2.8V/us; Mounting Technology: Surface Mount; Code_JEDEC: MS-013-AA; ComponentLink1Description: Manufacturer URL; ComponentLink1URL: http://www.analog.com/en/index.html; ComponentLink2Description: Datasheet; ComponentLink2URL: http://www.analog.com/static/imported-files/data_sheets/AD743.pdf; ComponentLink3Description: Package Specification; ComponentLink3URL: http://www.analog.com/static/imported-files/packages/PKG_PDF/SOIC_WIDE%20%28RW%29/RW_16.pdf
footprint ADI-RW-16_N (SOIC, 16-Leads, Body 10.3x7.5mm, Pitch 1.27mm,IPC Medium Density)
footprint ADI-RW-16_L (SOIC, 16-Leads, Body 10.3x7.5mm, Pitch 1.27mm, IPC High Density)
footprint ADI-RW-16_M (SOIC, 16-Leads, Body 10.3x7.5mm, Pitch 1.27mm, IPC Low Density)
part A pins: 2 OFFSET NULL (in), 3 -IN (in), 5 +IN (in), 6 -VS (power), 11 OFFSET NULL (in), 12 OUT (out), 13 +VS (power)
part B pins: 1 NC, 4 NC, 7 NC, 8 NC, 9 NC, 10 NC, 14 NC, 15 NC, 16 NC

## AD743JRZ-16-REEL7
designator U?
Single Channel Ultralow Noise Performance Operational Amplifier, 4.5 MHz BW, 2.8 V/us SR, Commercial, 16-pin SOIC (RW-16), Reel; Generic Part Number: AD743; Manufacturer: Analog Devices; PartNumber: AD743JRZ-16-REEL7; Amplifiers Per Package: 1; Input Bias Current: 150pA; Input Offset Voltage: 250uV; Iq/Amp: 10mA; Packing: Reel, 400; Small Signal Bandwidth: 4.5MHz; V Span Max: 36V; V Span Min: 9.6V; DatasheetVersion: Rev. E; PackageVersion: 032707-B; PackageReference: RW-16; PackageDescription: 16-Pin Standard Small Outline Package, Body 10.3 x 7.5 mm, Pitch 1.27 mm; Supplier 1: Digi-Key; Supplier Part Number 1: AD743JRZ-16-REEL7-ND; Slew Rate: 2.8V/us; Mounting Technology: Surface Mount; Code_JEDEC: MS-013-AA; ComponentLink1Description: Manufacturer URL; ComponentLink1URL: http://www.analog.com/en/index.html; ComponentLink2Description: Datasheet; ComponentLink2URL: http://www.analog.com/static/imported-files/data_sheets/AD743.pdf; ComponentLink3Description: Package Specification; ComponentLink3URL: http://www.analog.com/static/imported-files/packages/PKG_PDF/SOIC_WIDE%20%28RW%29/RW_16.pdf
footprint ADI-RW-16_N (SOIC, 16-Leads, Body 10.3x7.5mm, Pitch 1.27mm,IPC Medium Density)
footprint ADI-RW-16_L (SOIC, 16-Leads, Body 10.3x7.5mm, Pitch 1.27mm, IPC High Density)
footprint ADI-RW-16_M (SOIC, 16-Leads, Body 10.3x7.5mm, Pitch 1.27mm, IPC Low Density)
part A pins: 2 OFFSET NULL (in), 3 -IN (in), 5 +IN (in), 6 -VS (power), 11 OFFSET NULL (in), 12 OUT (out), 13 +VS (power)
part B pins: 1 NC, 4 NC, 7 NC, 8 NC, 9 NC, 10 NC, 14 NC, 15 NC, 16 NC

## AD745JR-16
designator U?
Single Channel Ultralow Noise Performance Operational Amplifier, 20 MHz BW, 12.5 V/us SR, Commercial, 16-pin SOIC (RW-16), Tube; Generic Part Number: AD745; Manufacturer: Analog Devices; PartNumber: AD745JR-16; Amplifiers Per Package: 1; Input Bias Current: 150pA; Input Offset Voltage: 250uV; Iq/Amp: 10mA; Small Signal Bandwidth: 20MHz; V Span Max: 36V; V Span Min: 9.6V; DatasheetVersion: Rev. D; PackageVersion: 032707-B; PackageReference: RW-16; PackageDescription: 16-Pin Standard Small Outline Package, Body 10.3 x 7.5 mm, Pitch 1.27 mm; Supplier 1: Digi-Key; Supplier Part Number 1: AD745JR-16-ND; Supplier 2: Farnell; Supplier Part Number 2: 1464559; Supplier 3: Newark; Supplier Part Number 3: 66F5841; Packing: Tube; Slew Rate: 12.5V/us; Mounting Technology: Surface Mount; Code_JEDEC: MS-013-AA; ComponentLink1Description: Manufacturer URL; ComponentLink1URL: http://www.analog.com/en/index.html; ComponentLink2Description: Datasheet; ComponentLink2URL: http://www.analog.com/static/imported-files/data_sheets/AD745.pdf; ComponentLink3Description: Package Specification; ComponentLink3URL: http://www.analog.com/static/imported-files/packages/PKG_PDF/SOIC_WIDE%20%28RW%29/RW_16.pdf
footprint ADI-RW-16_N (SOIC, 16-Leads, Body 10.3x7.5mm, Pitch 1.27mm,IPC Medium Density)
footprint ADI-RW-16_L (SOIC, 16-Leads, Body 10.3x7.5mm, Pitch 1.27mm, IPC High Density)
footprint ADI-RW-16_M (SOIC, 16-Leads, Body 10.3x7.5mm, Pitch 1.27mm, IPC Low Density)
part A pins: 2 OFFSET NULL (in), 3 -IN (in), 5 +IN (in), 6 -VS (power), 11 OFFSET NULL (in), 12 OUT (out), 13 +VS (power)
part B pins: 1 NC, 4 NC, 7 NC, 8 NC, 9 NC, 10 NC, 14 NC, 15 NC, 16 NC

## AD745JRZ-16
designator U?
Single Channel Ultralow Noise Performance Operational Amplifier, 20 MHz BW, 12.5 V/us SR, Commercial, 16-pin SOIC (RW-16), Tube; Generic Part Number: AD745; Manufacturer: Analog Devices; PartNumber: AD745JRZ-16; Amplifiers Per Package: 1; Input Bias Current: 150pA; Input Offset Voltage: 250uV; Iq/Amp: 10mA; Small Signal Bandwidth: 20MHz; V Span Max: 36V; V Span Min: 9.6V; DatasheetVersion: Rev. D; PackageVersion: 032707-B; PackageReference: RW-16; PackageDescription: 16-Pin Standard Small Outline Package, Body 10.3 x 7.5 mm, Pitch 1.27 mm; Supplier 1: Digi-Key; Supplier Part Number 1: AD745JRZ-16-ND; Supplier 2: Farnell; Supplier Part Number 2: 1838876; Supplier 3: Newark; Supplier Part Number 3: 59K4819; Packing: Tube; Slew Rate: 12.5V/us; Mounting Technology: Surface Mount; Code_JEDEC: MS-013-AA; ComponentLink1Description: Manufacturer URL; ComponentLink1URL: http://www.analog.com/en/index.html; ComponentLink2Description: Datasheet; ComponentLink2URL: http://www.analog.com/static/imported-files/data_sheets/AD745.pdf; ComponentLink3Description: Package Specification; ComponentLink3URL: http://www.analog.com/static/imported-files/packages/PKG_PDF/SOIC_WIDE%20%28RW%29/RW_16.pdf
footprint ADI-RW-16_N (SOIC, 16-Leads, Body 10.3x7.5mm, Pitch 1.27mm,IPC Medium Density)
footprint ADI-RW-16_L (SOIC, 16-Leads, Body 10.3x7.5mm, Pitch 1.27mm, IPC High Density)
footprint ADI-RW-16_M (SOIC, 16-Leads, Body 10.3x7.5mm, Pitch 1.27mm, IPC Low Density)
part A pins: 2 OFFSET NULL (in), 3 -IN (in), 5 +IN (in), 6 -VS (power), 11 OFFSET NULL (in), 12 OUT (out), 13 +VS (power)
part B pins: 1 NC, 4 NC, 7 NC, 8 NC, 9 NC, 10 NC, 14 NC, 15 NC, 16 NC

## AD745JRZ-16-REEL
designator U?
Single Channel Ultralow Noise Performance Operational Amplifier, 20 MHz BW, 12.5 V/us SR, Commercial, 16-pin SOIC (RW-16), Reel; Generic Part Number: AD745; Manufacturer: Analog Devices; PartNumber: AD745JRZ-16-REEL; Amplifiers Per Package: 1; Input Bias Current: 150pA; Input Offset Voltage: 250uV; Iq/Amp: 10mA; Small Signal Bandwidth: 20MHz; V Span Max: 36V; V Span Min: 9.6V; DatasheetVersion: Rev. D; PackageVersion: 032707-B; PackageReference: RW-16; PackageDescription: 16-Pin Standard Small Outline Package, Body 10.3 x 7.5 mm, Pitch 1.27 mm; Supplier 1: Digi-Key; Supplier Part Number 1: AD745JRZ-16-REEL-ND; Packing: Reel; Slew Rate: 12.5V/us; Mounting Technology: Surface Mount; Code_JEDEC: MS-013-AA; ComponentLink1Description: Manufacturer URL; ComponentLink1URL: http://www.analog.com/en/index.html; ComponentLink2Description: Datasheet; ComponentLink2URL: http://www.analog.com/static/imported-files/data_sheets/AD745.pdf; ComponentLink3Description: Package Specification; ComponentLink3URL: http://www.analog.com/static/imported-files/packages/PKG_PDF/SOIC_WIDE%20%28RW%29/RW_16.pdf
footprint ADI-RW-16_N (SOIC, 16-Leads, Body 10.3x7.5mm, Pitch 1.27mm,IPC Medium Density)
footprint ADI-RW-16_L (SOIC, 16-Leads, Body 10.3x7.5mm, Pitch 1.27mm, IPC High Density)
footprint ADI-RW-16_M (SOIC, 16-Leads, Body 10.3x7.5mm, Pitch 1.27mm, IPC Low Density)
part A pins: 2 OFFSET NULL (in), 3 -IN (in), 5 +IN (in), 6 -VS (power), 11 OFFSET NULL (in), 12 OUT (out), 13 +VS (power)
part B pins: 1 NC, 4 NC, 7 NC, 8 NC, 9 NC, 10 NC, 14 NC, 15 NC, 16 NC

## AD745JRZ-16-REEL7
designator U?
Single Channel Ultralow Noise Performance Operational Amplifier, 20 MHz BW, 12.5 V/us SR, Commercial, 16-pin SOIC (RW-16), Reel; Generic Part Number: AD745; Manufacturer: Analog Devices; PartNumber: AD745JRZ-16-REEL7; Amplifiers Per Package: 1; Input Bias Current: 150pA; Input Offset Voltage: 250uV; Iq/Amp: 10mA; Small Signal Bandwidth: 20MHz; V Span Max: 36V; V Span Min: 9.6V; DatasheetVersion: Rev. D; PackageVersion: 032707-B; PackageReference: RW-16; PackageDescription: 16-Pin Standard Small Outline Package, Body 10.3 x 7.5 mm, Pitch 1.27 mm; Supplier 1: Digi-Key; Supplier Part Number 1: AD745JRZ-16-REEL7-ND; Packing: Reel; Slew Rate: 12.5V/us; Mounting Technology: Surface Mount; Code_JEDEC: MS-013-AA; ComponentLink1Description: Manufacturer URL; ComponentLink1URL: http://www.analog.com/en/index.html; ComponentLink2Description: Datasheet; ComponentLink2URL: http://www.analog.com/static/imported-files/data_sheets/AD745.pdf; ComponentLink3Description: Package Specification; ComponentLink3URL: http://www.analog.com/static/imported-files/packages/PKG_PDF/SOIC_WIDE%20%28RW%29/RW_16.pdf
footprint ADI-RW-16_N (SOIC, 16-Leads, Body 10.3x7.5mm, Pitch 1.27mm,IPC Medium Density)
footprint ADI-RW-16_L (SOIC, 16-Leads, Body 10.3x7.5mm, Pitch 1.27mm, IPC High Density)
footprint ADI-RW-16_M (SOIC, 16-Leads, Body 10.3x7.5mm, Pitch 1.27mm, IPC Low Density)
part A pins: 2 OFFSET NULL (in), 3 -IN (in), 5 +IN (in), 6 -VS (power), 11 OFFSET NULL (in), 12 OUT (out), 13 +VS (power)
part B pins: 1 NC, 4 NC, 7 NC, 8 NC, 9 NC, 10 NC, 14 NC, 15 NC, 16 NC

## AD745KR-16
designator U?
Single Channel Ultralow Noise Performance Operational Amplifier, 20 MHz BW, 12.5 V/us SR, Commercial, 16-pin SOIC (RW-16), Tube; Generic Part Number: AD745; Manufacturer: Analog Devices; PartNumber: AD745KR-16; Amplifiers Per Package: 1; Input Bias Current: 150pA; Input Offset Voltage: 100uV; Iq/Amp: 10mA; Small Signal Bandwidth: 20MHz; V Span Max: 36V; V Span Min: 9.6V; DatasheetVersion: Rev. D; PackageVersion: 032707-B; PackageReference: RW-16; PackageDescription: 16-Pin Standard Small Outline Package, Body 10.3 x 7.5 mm, Pitch 1.27 mm; Supplier 1: Digi-Key; Supplier Part Number 1: AD745KR-16-ND; Packing: Tube; Slew Rate: 12.5V/us; Mounting Technology: Surface Mount; Code_JEDEC: MS-013-AA; ComponentLink1Description: Manufacturer URL; ComponentLink1URL: http://www.analog.com/en/index.html; ComponentLink2Description: Datasheet; ComponentLink2URL: http://www.analog.com/static/imported-files/data_sheets/AD745.pdf; ComponentLink3Description: Package Specification; ComponentLink3URL: http://www.analog.com/static/imported-files/packages/PKG_PDF/SOIC_WIDE%20%28RW%29/RW_16.pdf
footprint ADI-RW-16_N (SOIC, 16-Leads, Body 10.3x7.5mm, Pitch 1.27mm,IPC Medium Density)
footprint ADI-RW-16_L (SOIC, 16-Leads, Body 10.3x7.5mm, Pitch 1.27mm, IPC High Density)
footprint ADI-RW-16_M (SOIC, 16-Leads, Body 10.3x7.5mm, Pitch 1.27mm, IPC Low Density)
part A pins: 2 OFFSET NULL (in), 3 -IN (in), 5 +IN (in), 6 -VS (power), 11 OFFSET NULL (in), 12 OUT (out), 13 +VS (power)
part B pins: 1 NC, 4 NC, 7 NC, 8 NC, 9 NC, 10 NC, 14 NC, 15 NC, 16 NC

## AD745KR-16-REEL
designator U?
Single Channel Ultralow Noise Performance Operational Amplifier, 20 MHz BW, 12.5 V/us SR, Commercial, 16-pin SOIC (RW-16), Reel; Generic Part Number: AD745; Manufacturer: Analog Devices; PartNumber: AD745KR-16-REEL; Amplifiers Per Package: 1; Input Bias Current: 150pA; Input Offset Voltage: 100uV; Iq/Amp: 10mA; Small Signal Bandwidth: 20MHz; V Span Max: 36V; V Span Min: 9.6V; DatasheetVersion: Rev. D; PackageVersion: 032707-B; PackageReference: RW-16; PackageDescription: 16-Pin Standard Small Outline Package, Body 10.3 x 7.5 mm, Pitch 1.27 mm; Supplier 1: Digi-Key; Supplier Part Number 1: AD745KR-16-REEL-ND; Packing: Reel; Slew Rate: 12.5V/us; Mounting Technology: Surface Mount; Code_JEDEC: MS-013-AA; ComponentLink1Description: Manufacturer URL; ComponentLink1URL: http://www.analog.com/en/index.html; ComponentLink2Description: Datasheet; ComponentLink2URL: http://www.analog.com/static/imported-files/data_sheets/AD745.pdf; ComponentLink3Description: Package Specification; ComponentLink3URL: http://www.analog.com/static/imported-files/packages/PKG_PDF/SOIC_WIDE%20%28RW%29/RW_16.pdf
footprint ADI-RW-16_N (SOIC, 16-Leads, Body 10.3x7.5mm, Pitch 1.27mm,IPC Medium Density)
footprint ADI-RW-16_L (SOIC, 16-Leads, Body 10.3x7.5mm, Pitch 1.27mm, IPC High Density)
footprint ADI-RW-16_M (SOIC, 16-Leads, Body 10.3x7.5mm, Pitch 1.27mm, IPC Low Density)
part A pins: 2 OFFSET NULL (in), 3 -IN (in), 5 +IN (in), 6 -VS (power), 11 OFFSET NULL (in), 12 OUT (out), 13 +VS (power)
part B pins: 1 NC, 4 NC, 7 NC, 8 NC, 9 NC, 10 NC, 14 NC, 15 NC, 16 NC

## AD745KR-16-REEL7
designator U?
Single Channel Ultralow Noise Performance Operational Amplifier, 20 MHz BW, 12.5 V/us SR, Commercial, 16-pin SOIC (RW-16), Reel; Generic Part Number: AD745; Manufacturer: Analog Devices; PartNumber: AD745KR-16-REEL7; Amplifiers Per Package: 1; Input Bias Current: 150pA; Input Offset Voltage: 100uV; Iq/Amp: 10mA; Small Signal Bandwidth: 20MHz; V Span Max: 36V; V Span Min: 9.6V; DatasheetVersion: Rev. D; PackageVersion: 032707-B; PackageReference: RW-16; PackageDescription: 16-Pin Standard Small Outline Package, Body 10.3 x 7.5 mm, Pitch 1.27 mm; Supplier 1: Digi-Key; Supplier Part Number 1: AD745KR-16-REEL7-ND; Packing: Reel; Slew Rate: 12.5V/us; Mounting Technology: Surface Mount; Code_JEDEC: MS-013-AA; ComponentLink1Description: Manufacturer URL; ComponentLink1URL: http://www.analog.com/en/index.html; ComponentLink2Description: Datasheet; ComponentLink2URL: http://www.analog.com/static/imported-files/data_sheets/AD745.pdf; ComponentLink3Description: Package Specification; ComponentLink3URL: http://www.analog.com/static/imported-files/packages/PKG_PDF/SOIC_WIDE%20%28RW%29/RW_16.pdf
footprint ADI-RW-16_N (SOIC, 16-Leads, Body 10.3x7.5mm, Pitch 1.27mm,IPC Medium Density)
footprint ADI-RW-16_L (SOIC, 16-Leads, Body 10.3x7.5mm, Pitch 1.27mm, IPC High Density)
footprint ADI-RW-16_M (SOIC, 16-Leads, Body 10.3x7.5mm, Pitch 1.27mm, IPC Low Density)
part A pins: 2 OFFSET NULL (in), 3 -IN (in), 5 +IN (in), 6 -VS (power), 11 OFFSET NULL (in), 12 OUT (out), 13 +VS (power)
part B pins: 1 NC, 4 NC, 7 NC, 8 NC, 9 NC, 10 NC, 14 NC, 15 NC, 16 NC

## AD745KRZ-16
designator U?
Single Channel Ultralow Noise Performance Operational Amplifier, 20 MHz BW, 12.5 V/us SR, Commercial, 16-pin SOIC (RW-16), Tube; Generic Part Number: AD745; Manufacturer: Analog Devices; PartNumber: AD745KRZ-16; Amplifiers Per Package: 1; Input Bias Current: 150pA; Input Offset Voltage: 100uV; Iq/Amp: 10mA; Small Signal Bandwidth: 20MHz; V Span Max: 36V; V Span Min: 9.6V; DatasheetVersion: Rev. D; PackageVersion: 032707-B; PackageReference: RW-16; PackageDescription: 16-Pin Standard Small Outline Package, Body 10.3 x 7.5 mm, Pitch 1.27 mm; Supplier 1: Digi-Key; Supplier Part Number 1: AD745KRZ-16-ND; Packing: Tube; Slew Rate: 12.5V/us; Mounting Technology: Surface Mount; Code_JEDEC: MS-013-AA; ComponentLink1Description: Manufacturer URL; ComponentLink1URL: http://www.analog.com/en/index.html; ComponentLink2Description: Datasheet; ComponentLink2URL: http://www.analog.com/static/imported-files/data_sheets/AD745.pdf; ComponentLink3Description: Package Specification; ComponentLink3URL: http://www.analog.com/static/imported-files/packages/PKG_PDF/SOIC_WIDE%20%28RW%29/RW_16.pdf
footprint ADI-RW-16_N (SOIC, 16-Leads, Body 10.3x7.5mm, Pitch 1.27mm,IPC Medium Density)
footprint ADI-RW-16_L (SOIC, 16-Leads, Body 10.3x7.5mm, Pitch 1.27mm, IPC High Density)
footprint ADI-RW-16_M (SOIC, 16-Leads, Body 10.3x7.5mm, Pitch 1.27mm, IPC Low Density)
part A pins: 2 OFFSET NULL (in), 3 -IN (in), 5 +IN (in), 6 -VS (power), 11 OFFSET NULL (in), 12 OUT (out), 13 +VS (power)
part B pins: 1 NC, 4 NC, 7 NC, 8 NC, 9 NC, 10 NC, 14 NC, 15 NC, 16 NC

## AD745KRZ-16-REEL
designator U?
Single Channel Ultralow Noise Performance Operational Amplifier, 20 MHz BW, 12.5 V/us SR, Commercial, 16-pin SOIC (RW-16), Reel; Generic Part Number: AD745; Manufacturer: Analog Devices; PartNumber: AD745KRZ-16-REEL; Amplifiers Per Package: 1; Input Bias Current: 150pA; Input Offset Voltage: 100uV; Iq/Amp: 10mA; Small Signal Bandwidth: 20MHz; V Span Max: 36V; V Span Min: 9.6V; DatasheetVersion: Rev. D; PackageVersion: 032707-B; PackageReference: RW-16; PackageDescription: 16-Pin Standard Small Outline Package, Body 10.3 x 7.5 mm, Pitch 1.27 mm; Supplier 1: Digi-Key; Supplier Part Number 1: AD745KRZ-16-REEL-ND; Packing: Reel; Slew Rate: 12.5V/us; Mounting Technology: Surface Mount; Code_JEDEC: MS-013-AA; ComponentLink1Description: Manufacturer URL; ComponentLink1URL: http://www.analog.com/en/index.html; ComponentLink2Description: Datasheet; ComponentLink2URL: http://www.analog.com/static/imported-files/data_sheets/AD745.pdf; ComponentLink3Description: Package Specification; ComponentLink3URL: http://www.analog.com/static/imported-files/packages/PKG_PDF/SOIC_WIDE%20%28RW%29/RW_16.pdf
footprint ADI-RW-16_N (SOIC, 16-Leads, Body 10.3x7.5mm, Pitch 1.27mm,IPC Medium Density)
footprint ADI-RW-16_L (SOIC, 16-Leads, Body 10.3x7.5mm, Pitch 1.27mm, IPC High Density)
footprint ADI-RW-16_M (SOIC, 16-Leads, Body 10.3x7.5mm, Pitch 1.27mm, IPC Low Density)
part A pins: 2 OFFSET NULL (in), 3 -IN (in), 5 +IN (in), 6 -VS (power), 11 OFFSET NULL (in), 12 OUT (out), 13 +VS (power)
part B pins: 1 NC, 4 NC, 7 NC, 8 NC, 9 NC, 10 NC, 14 NC, 15 NC, 16 NC